# Altium footprint library Crystal.PcbLib: 180 footprints (part 1 of 12)
Each footprint in its own frame and in the unit in brackets; x right, y up, seen from the top. Pads: shape width x height; smd on the part's side, far side on the other; paste and mask are expansions set on the pad; w line width, h text height; cw(c..) or ccw(c..) is an arc to the next point about the centre after c.
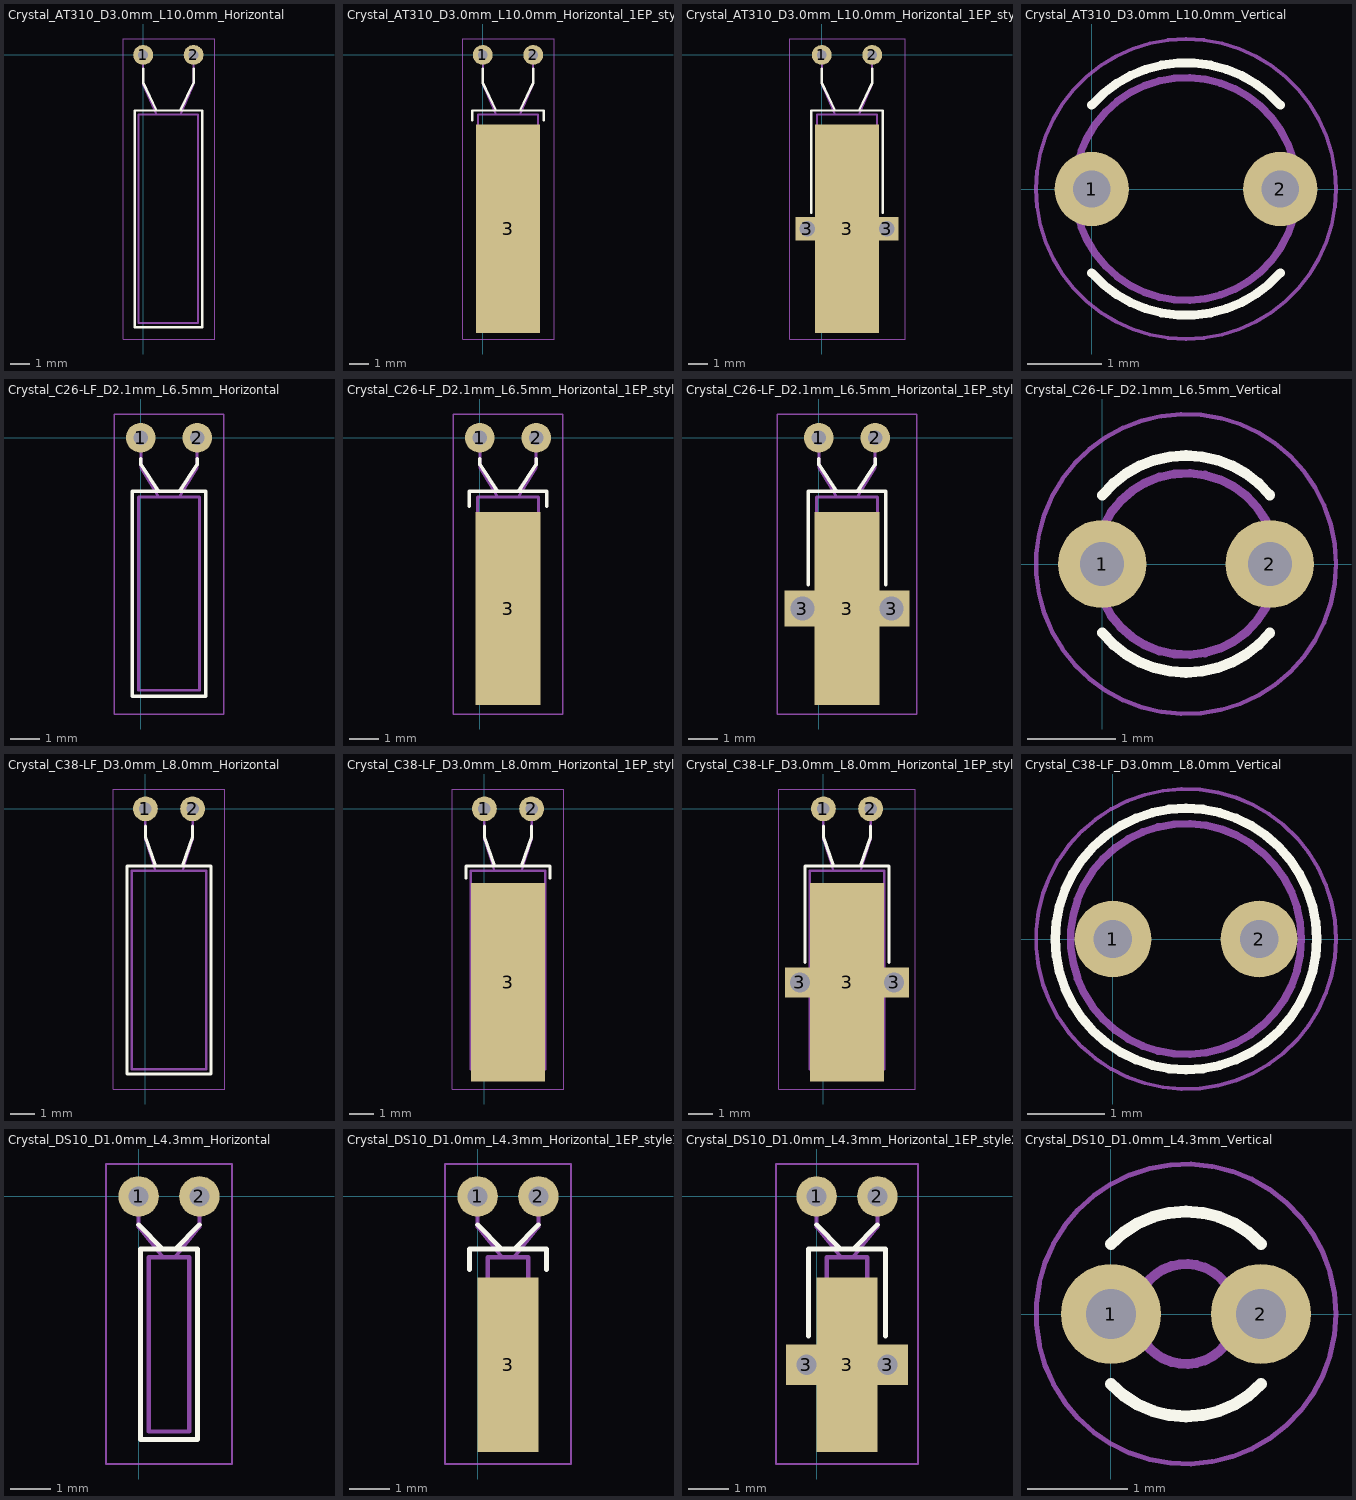
[diagram p0: the footprints below, top view; thin cyan lines are the x and y axes]

## Crystal_AT310_D3.0mm_L10.0mm_Horizontal [mm]
pads (2):
  round 1 hole 0.5: 1(0,0) 2(2.54,0)
F.SilkS:
  lines w0.12: 0,-0.7 0,-1.4 0.67,-2.8 ; 1.87,-2.8 2.54,-1.4 2.54,-0.7 ; -0.43,-13.7 2.97,-13.7 2.97,-2.8 -0.43,-2.8 -0.43,-13.7
F.CrtYd:
  lines w0.05: -1,-14.3 3.6,-14.3 3.6,0.8 -1,0.8 -1,-14.3
F.Fab:
  lines w0.1: 0,0 0,-1.5 0.67,-3 ; 1.87,-3 2.54,-1.5 2.54,0 ; -0.23,-13.5 -0.23,-3 2.77,-3 2.77,-13.5 -0.23,-13.5
  text "'.Designator'" at 1.922,-11.987 h0.8
3D body "Crystal_AT310_D3.0mm_L10.0mm_Horizontal.step": height 3.1, standoff -3, extent -0.269,-12.2 2.809,0.15

## Crystal_AT310_D3.0mm_L10.0mm_Horizontal_1EP_style1 [mm]
pads (3):
  round 1 hole 0.5: 1(0,0) 2(2.54,0)
  rect 3.2x10.5 smd: 3(1.27,-8.75)
F.SilkS:
  lines w0.12: -0.53,-3.3 -0.53,-2.8 3.07,-2.8 3.07,-3.3 ; 0,-0.7 0,-1.4 0.67,-2.8 ; 1.87,-2.8 2.54,-1.4 2.54,-0.7
F.CrtYd:
  lines w0.05: -1,-14.3 -1,0.8 3.6,0.8 3.6,-14.3 -1,-14.3
F.Fab:
  lines w0.1: 0,0 0,-1.5 0.67,-3 ; 1.87,-3 2.54,-1.5 2.54,0 ; -0.23,-13.5 -0.23,-3 2.77,-3 2.77,-13.5 -0.23,-13.5
  text "'.Designator'" at 1.922,-11.737 h0.8
3D body "Crystal_AT310_D3.0mm_L10.0mm_Horizontal_1EP_style1.step": height 3.1, standoff -3, extent -0.269,-12.2 2.809,0.15

## Crystal_AT310_D3.0mm_L10.0mm_Horizontal_1EP_style2 [mm]
pads (5):
  round 1 hole 0.5: 1(0,0) 2(2.54,0)
  rect 1.2x1.2 hole 0.8: 3(-0.73,-8.75) 3(3.27,-8.75)
  rect 3.2x10.5 smd: 3(1.27,-8.75)
F.SilkS:
  lines w0.12: -0.53,-7.95 -0.53,-2.8 3.07,-2.8 3.07,-7.95 ; 0,-0.7 0,-1.4 0.67,-2.8 ; 1.87,-2.8 2.54,-1.4 2.54,-0.7
F.CrtYd:
  lines w0.05: -1.6,-14.3 -1.6,0.8 4.2,0.8 4.2,-14.3 -1.6,-14.3
F.Fab:
  lines w0.1: -0.73,-8.75 3.27,-8.75 ; 0,0 0,-1.5 0.67,-3 ; 1.87,-3 2.54,-1.5 2.54,0 ; -0.23,-13.5 -0.23,-3 2.77,-3 2.77,-13.5 -0.23,-13.5
  text "'.Designator'" at 2.34,-9.797 h1
3D body "Crystal_AT310_D3.0mm_L10.0mm_Horizontal_1EP_style2.step": height 3.1, standoff -3, extent -0.269,-12.2 2.809,0.15

## Crystal_AT310_D3.0mm_L10.0mm_Vertical [mm]
pads (2):
  round 1 hole 0.5: 1(0,0) 2(2.54,0)
F.SilkS:
  lines w0.12: 0,-1.13 ccw(c1.27,0) 2.541,-1.129 ; 0,1.13 cw(c1.27,0) 2.541,1.129
F.CrtYd:
  circle w0.05: c1.27,0 r2.02
F.Fab:
  circle w0.1: c1.27,0 r1.5
  text "'.Designator'" at -1.967,-0.672 h0.8
3D body "Crystal_AT310_D3.0mm_L10.0mm_Vertical.step": height 11.2, standoff -3, extent -0.28,-1.539 2.82,1.539

## Crystal_C26-LF_D2.1mm_L6.5mm_Horizontal [mm]
pads (2):
  round 1 hole 0.5: 1(0,0) 2(1.9,0)
F.SilkS:
  lines w0.12: 0,-0.7 0,-0.9 0.6,-1.8 ; 1.3,-1.8 1.9,-0.9 1.9,-0.7 ; -0.28,-8.7 -0.28,-1.8 2.18,-1.8 2.18,-8.7 -0.28,-8.7
F.CrtYd:
  lines w0.05: -0.9,-9.3 -0.9,0.8 2.8,0.8 2.8,-9.3 -0.9,-9.3
F.Fab:
  lines w0.1: 0,0 0,-1 0.6,-2 ; 1.3,-2 1.9,-1 1.9,0 ; -0.08,-8.5 -0.08,-2 1.98,-2 1.98,-8.5 -0.08,-8.5
  text "'.Designator'" at 1.588,-8.333 h0.7
3D body "Crystal_C26-LF_D2.1mm_L6.5mm_Horizontal.step": height 2.1, standoff -3, extent -0.15,-8.05 2.05,0.15

## Crystal_C26-LF_D2.1mm_L6.5mm_Horizontal_1EP_style1 [mm]
pads (3):
  round 1 hole 0.5: 1(0,0) 2(1.9,0)
  rect 2.2x6.5 smd: 3(0.95,-5.75)
F.SilkS:
  lines w0.12: -0.35,-2.3 -0.35,-1.8 2.25,-1.8 2.25,-2.3 ; 0,-0.7 0,-0.9 0.6,-1.8 ; 1.3,-1.8 1.9,-0.9 1.9,-0.7
F.CrtYd:
  lines w0.05: -0.9,-9.3 2.8,-9.3 2.8,0.8 -0.9,0.8 -0.9,-9.3
F.Fab:
  lines w0.1: 0,0 0,-1 0.6,-2 ; 1.3,-2 1.9,-1 1.9,0 ; -0.08,-8.5 1.98,-8.5 1.98,-2 -0.08,-2 -0.08,-8.5
  text "'.Designator'" at 1.588,-8.583 h0.7
3D body "Crystal_C26-LF_D2.1mm_L6.5mm_Horizontal_1EP_style1.step": height 2.1, standoff -3, extent -0.15,-8.05 2.05,0.15

## Crystal_C26-LF_D2.1mm_L6.5mm_Horizontal_1EP_style2 [mm]
pads (5):
  round 1 hole 0.5: 1(0,0) 2(1.9,0)
  rect 1.2x1.2 hole 0.8: 3(-0.55,-5.75) 3(2.45,-5.75)
  rect 2.2x6.5 smd: 3(0.95,-5.75)
F.SilkS:
  lines w0.12: -0.35,-4.95 -0.35,-1.8 2.25,-1.8 2.25,-4.95 ; 0,-0.7 0,-0.9 0.6,-1.8 ; 1.3,-1.8 1.9,-0.9 1.9,-0.7
F.CrtYd:
  lines w0.05: -1.4,-9.3 3.3,-9.3 3.3,0.8 -1.4,0.8 -1.4,-9.3
F.Fab:
  lines w0.1: -0.55,-5.75 2.45,-5.75 ; 0,0 0,-1 0.6,-2 ; 1.3,-2 1.9,-1 1.9,0 ; -0.08,-8.5 1.98,-8.5 1.98,-2 -0.08,-2 -0.08,-8.5
  text "'.Designator'" at -0.66,-5.797 h1
3D body "Crystal_C26-LF_D2.1mm_L6.5mm_Horizontal_1EP_style2.step": height 2.1, standoff -3, extent -0.15,-8.05 2.05,0.15

## Crystal_C26-LF_D2.1mm_L6.5mm_Vertical [mm]
pads (2):
  round 1 hole 0.5: 1(0,0) 2(1.9,0)
F.SilkS:
  lines w0.12: 0,-0.781 ccw(c0.95,0) 1.9,-0.782 ; 0,0.781 cw(c0.95,0) 1.9,0.782
F.CrtYd:
  circle w0.05: c0.95,0 r1.7
F.Fab:
  circle w0.1: c0.95,0 r1.03
  text "'.Designator'" at -1.883,-0.588 h0.7
3D body "Crystal_C26-LF_D2.1mm_L6.5mm_Vertical.step": height 8.05, standoff -3, extent -0.15,-1.042 2.05,1.042

## Crystal_C38-LF_D3.0mm_L8.0mm_Horizontal [mm]
pads (2):
  round 1 hole 0.5: 1(0,0) 2(1.9,0)
F.SilkS:
  lines w0.12: 0,-0.7 0,-1.15 0.405,-2.3 ; 1.495,-2.3 1.9,-1.15 1.9,-0.7 ; -0.75,-10.7 -0.75,-2.3 2.65,-2.3 2.65,-10.7 -0.75,-10.7
F.CrtYd:
  lines w0.05: -1.3,-11.3 3.2,-11.3 3.2,0.8 -1.3,0.8 -1.3,-11.3
F.Fab:
  lines w0.1: 0,0 0,-1.25 0.405,-2.5 ; 1.495,-2.5 1.9,-1.25 1.9,0 ; -0.55,-10.5 2.45,-10.5 2.45,-2.5 -0.55,-2.5 -0.55,-10.5
  text "'.Designator'" at 1.838,-9.333 h0.7
3D body "Crystal_C38-LF_D3.0mm_L8.0mm_Horizontal.step": height 3, standoff -3, extent -0.539,-9.85 2.439,0.149

## Crystal_C38-LF_D3.0mm_L8.0mm_Horizontal_1EP_style1 [mm]
pads (3):
  round 1 hole 0.5: 1(0,0) 2(1.9,0)
  rect 3x8 smd: 3(0.95,-7)
F.SilkS:
  lines w0.12: -0.75,-2.8 -0.75,-2.3 2.65,-2.3 2.65,-2.8 ; 0,-0.7 0,-1.15 0.405,-2.3 ; 1.495,-2.3 1.9,-1.15 1.9,-0.7
F.CrtYd:
  lines w0.05: -1.3,-11.3 3.2,-11.3 3.2,0.8 -1.3,0.8 -1.3,-11.3
F.Fab:
  lines w0.1: 0,0 0,-1.25 0.405,-2.5 ; 1.495,-2.5 1.9,-1.25 1.9,0 ; -0.55,-10.5 2.45,-10.5 2.45,-2.5 -0.55,-2.5 -0.55,-10.5
  text "'.Designator'" at -1.883,-5.838 h0.7
3D body "Crystal_C38-LF_D3.0mm_L8.0mm_Horizontal_1EP_style1.step": height 3, standoff -3, extent -0.539,-9.85 2.439,0.149

## Crystal_C38-LF_D3.0mm_L8.0mm_Horizontal_1EP_style2 [mm]
pads (5):
  round 1 hole 0.5: 1(0,0) 2(1.9,0)
  rect 1.2x1.2 hole 0.8: 3(-0.95,-7) 3(2.85,-7)
  rect 3x8 smd: 3(0.95,-7)
F.SilkS:
  lines w0.12: -0.75,-6.2 -0.75,-2.3 2.65,-2.3 2.65,-6.2 ; 0,-0.7 0,-1.15 0.405,-2.3 ; 1.495,-2.3 1.9,-1.15 1.9,-0.7
F.CrtYd:
  lines w0.05: -1.8,-11.3 -1.8,0.8 3.7,0.8 3.7,-11.3 -1.8,-11.3
F.Fab:
  lines w0.1: -0.95,-7 2.85,-7 ; 0,0 0,-1.25 0.405,-2.5 ; 1.495,-2.5 1.9,-1.25 1.9,0 ; -0.55,-10.5 -0.55,-2.5 2.45,-2.5 2.45,-10.5 -0.55,-10.5
  text "'.Designator'" at 1.84,-8.797 h1
3D body "Crystal_C38-LF_D3.0mm_L8.0mm_Horizontal_1EP_style2.step": height 3, standoff -3, extent -0.539,-9.85 2.439,0.149

## Crystal_C38-LF_D3.0mm_L8.0mm_Vertical [mm]
pads (2):
  round 1 hole 0.5: 1(0,0) 2(1.9,0)
F.SilkS:
  lines w0.12: -0.75,0 ccw(c0.95,0) 2.65,0 ccw(c0.95,0) -0.75,0
F.CrtYd:
  circle w0.05: c0.95,0 r1.95
F.Fab:
  circle w0.1: c0.95,0 r1.5
  text "'.Designator'" at -1.883,-0.588 h0.7
3D body "Crystal_C38-LF_D3.0mm_L8.0mm_Vertical.step": height 9.4, standoff -3, extent -0.55,-1.489 2.45,1.489

## Crystal_DS10_D1.0mm_L4.3mm_Horizontal [mm]
pads (2):
  round 1 hole 0.5: 1(0,0) 2(1.5,0)
F.SilkS:
  lines w0.12: 0,-0.7 0.6,-1.3 ; 0.9,-1.3 1.5,-0.7 ; 0.05,-6 1.45,-6 1.45,-1.3 0.05,-1.3 0.05,-6
F.CrtYd:
  lines w0.05: -0.8,-6.6 2.3,-6.6 2.3,0.8 -0.8,0.8 -0.8,-6.6
F.Fab:
  lines w0.1: 0,0 0,-0.75 0.6,-1.5 ; 0.9,-1.5 1.5,-0.75 1.5,0 ; 0.25,-5.8 1.25,-5.8 1.25,-1.5 0.25,-1.5 0.25,-5.8
  text "'.Designator'" at 1.254,-5.928 h0.6

## Crystal_DS10_D1.0mm_L4.3mm_Horizontal_1EP_style1 [mm]
pads (3):
  round 1 hole 0.5: 1(0,0) 2(1.5,0)
  rect 1.5x4.3 smd: 3(0.75,-4.15)
F.SilkS:
  lines w0.12: -0.2,-1.8 -0.2,-1.3 1.7,-1.3 1.7,-1.8 ; 0,-0.7 0.6,-1.3 ; 0.9,-1.3 1.5,-0.7
F.CrtYd:
  lines w0.05: -0.8,-6.6 -0.8,0.8 2.3,0.8 2.3,-6.6 -0.8,-6.6
F.Fab:
  lines w0.1: 0,0 0,-0.75 0.6,-1.5 ; 0.9,-1.5 1.5,-0.75 1.5,0 ; 0.25,-5.8 0.25,-1.5 1.25,-1.5 1.25,-5.8 0.25,-5.8
  text "'.Designator'" at 1.254,-6.178 h0.6

## Crystal_DS10_D1.0mm_L4.3mm_Horizontal_1EP_style2 [mm]
pads (5):
  round 1 hole 0.5: 1(0,0) 2(1.5,0)
  rect 1x1 hole 0.5: 3(-0.25,-4.15) 3(1.75,-4.15)
  rect 1.5x4.3 smd: 3(0.75,-4.15)
F.SilkS:
  lines w0.12: -0.2,-3.45 -0.2,-1.3 1.7,-1.3 1.7,-3.45 ; 0,-0.7 0.6,-1.3 ; 0.9,-1.3 1.5,-0.7
F.CrtYd:
  lines w0.05: -1,-6.6 2.5,-6.6 2.5,0.8 -1,0.8 -1,-6.6
F.Fab:
  lines w0.1: -0.25,-4.15 1.75,-4.15 ; 0,0 0,-0.75 0.6,-1.5 ; 0.9,-1.5 1.5,-0.75 1.5,0 ; 0.25,-5.8 0.25,-1.5 1.25,-1.5 1.25,-5.8 0.25,-5.8
  text "'.Designator'" at -2.083,-7.088 h0.7

## Crystal_DS10_D1.0mm_L4.3mm_Vertical [mm]
pads (2):
  round 1 hole 0.5: 1(0,0) 2(1.5,0)
F.SilkS:
  lines w0.12: 0,-0.7 ccw(c0.75,0) 1.499,-0.701 ; 0,0.7 cw(c0.75,0) 1.499,0.701
F.CrtYd:
  circle w0.05: c0.75,0 r1.5
F.Fab:
  circle w0.1: c0.75,0 r0.5
  text "'.Designator'" at 0.322,-0.504 h0.6
3D body "Crystal_DS10_D1.0mm_L4.3mm_Vertical.step": height 5.28, standoff -2.9, extent -0.05,-0.496 1.55,0.496